# Altium integrated library Motor Driver - Controller.IntLib: 2 symbols
Pins are listed as number, name and electrical type; pins without a type are passive.

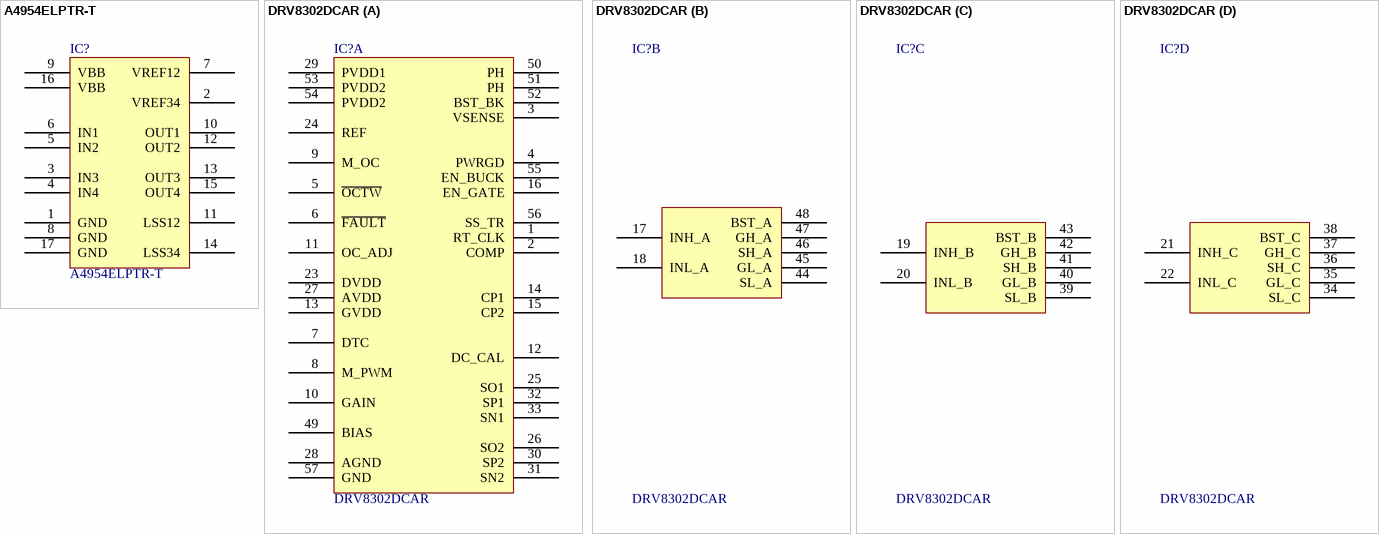
[diagram p0: symbols A4954ELPTR-T to DRV8302DCAR]

## A4954ELPTR-T
designator IC?
IC MOTOR DRIVER PAR 16TSSOP; Manufacturer: Allegro MicroSystems, LLC; Motor Type - AC, DC: Brushed DC; Function: Driver - Fully Integrated, Control and Power Stage; Output Configuration: Half Bridge (4); Interface: Parallel; Current - Output: 2A; Voltage - Supply: 8 V ~ 40 V; Part Number: A4954ELPTR-T; PartId: 27911; Supplier 1: Digi-Key; Supplier Part Number 1: 620-1384-1-ND; ComponentLink1Description: Datasheet; ComponentLink1URL: http://www.allegromicro.com/~/media/Files/Datasheets/A4954-Datasheet.ashx; ComponentLink2Description: Digi-Key Listing; ComponentLink2URL: http://www.digikey.com/product-detail/en/allegro-microsystems-llc/A4954ELPTR-T/620-1384-1-ND/2509924; Price: 2.84; Device Package: 16-TSSOP (0.173", 4.40mm Width) Exposed Pad; Motor Type - Stepper: -; Technology: DMOS; Step Resolution: -; Voltage - Load: 8 V ~ 40 V
footprint ALLEGRO TSSOP-16EP LP
pins: 1 GND, 2 VREF34, 3 IN3, 4 IN4, 5 IN2, 6 IN1, 7 VREF12, 8 GND, 9 VBB, 10 OUT1, 11 LSS12, 12 OUT2, 13 OUT3, 14 LSS34, 15 OUT4, 16 VBB, 17 GND

## DRV8302DCAR
designator IC?
IC MOTOR CONTROLLER PAR 56HTSSOP; Manufacturer: Texas Instruments; Motor Type - AC, DC: Brushless DC (BLDC); Function: Controller - Commutation, Direction Management; Output Configuration: Pre-Driver - Half Bridge (3); Interface: Parallel; Voltage - Supply: 8 V ~ 60 V; Part Number: DRV8302DCAR; PartId: 9703; Supplier 1: Digi-Key; Supplier Part Number 1: 296-29544-2-ND; ComponentLink1Description: Datasheet; ComponentLink1URL: http://www.ti.com/lit/ds/symlink/drv8302.pdf; ComponentLink2Description: Digi-Key Listing; ComponentLink2URL: http://www.digikey.com/product-detail/en/texas-instruments/DRV8302DCAR/296-29544-2-ND/2753621; Price: 2.8125; Device Package: 56-TFSOP (0.240", 6.10mm Width) Exposed Pad; Motor Type - Stepper: -; Technology: Power MOSFET; Step Resolution: -; Current - Output: -; Voltage - Load: -
footprint TI HTSSOP-56 DCA
part A pins: 1 RT_CLK, 2 COMP, 3 VSENSE, 4 PWRGD, 5 ~{OCTW}, 6 ~{FAULT}, 7 DTC, 8 M_PWM, 9 M_OC, 10 GAIN, 11 OC_ADJ, 12 DC_CAL, 13 GVDD, 14 CP1, 15 CP2, 16 EN_GATE, 23 DVDD, 24 REF, 25 SO1, 26 SO2, 27 AVDD, 28 AGND, 29 PVDD1, 30 SP2, 31 SN2, 32 SP1, 33 SN1, 49 BIAS, 50 PH, 51 PH, 52 BST_BK, 53 PVDD2, 54 PVDD2, 55 EN_BUCK, 56 SS_TR, 57 GND
part B pins: 17 INH_A, 18 INL_A, 44 SL_A, 45 GL_A, 46 SH_A, 47 GH_A, 48 BST_A
part C pins: 19 INH_B, 20 INL_B, 39 SL_B, 40 GL_B, 41 SH_B, 42 GH_B, 43 BST_B
part D pins: 21 INH_C, 22 INL_C, 34 SL_C, 35 GL_C, 36 SH_C, 37 GH_C, 38 BST_C